# EAGLE library part SCART-MALE-PINS-CONNECTOR (library arcadetv)
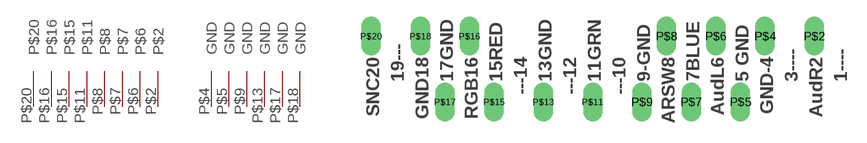
[diagram p3: symbol with the pads of SCART-MALE-PINS-CONNECTOR; footprint SCART-MALE-PINS-CONNECTOR]

Designator prefix -

## SCART-MALE-PINS-CONNECTOR  [SCART-MALE-PINS-CONNECTOR]
P$2  P$2
P$4  GND
P$5  GND
P$6  P$6
P$7  P$7
P$8  P$8
P$9  GND
P$11  P$11
P$13  GND
P$15  P$15
P$16  P$16
P$17  GND
P$18  GND
P$20  P$20

## Footprint SCART-MALE-PINS-CONNECTOR (pad centres in mm)
drill 1 long: P$2 -1.905,5.08; P$4 -5.715,5.08; P$5 -7.62,0; P$6 -9.525,5.08; P$7 -11.43,0; P$8 -13.335,5.08; P$9 -15.24,0; P$11 -19.05,0; P$13 -22.86,0; P$15 -26.67,0; P$16 -28.575,5.08; P$17 -30.48,0; P$18 -32.385,5.08; P$20 -36.195,5.08